# EAGLE library part ECMF2-40A100N6 (library ECMF2-40A100N6)
2 Line Common Mode Choke Surface Mount 100mA DCR 3Ohm (Typ) , -55C ~ 125C Source: Datasheet <https://www.st.com/resource/en/datasheet/ecmf2-40a100n6.pdf>
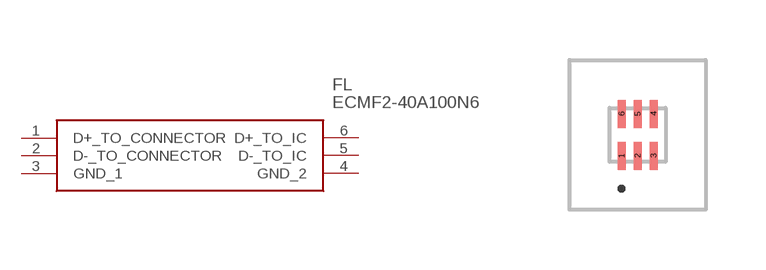
[diagram p0: symbol with the pads of ECMF240A100N6; footprint ECMF240A100N6]

Designator prefix FL

## ECMF2-40A100N6 (Arrow_Part_Number: ECMF2-40A100N6; Arrow_Price-Stock: https://www.arrow.com/en/products/ecmf2-40a100n6/stmicroelectronics.html?utm_currency=USD&region=nac; Description: 2 Line Common Mode Choke Surface Mount 100mA DCR 3Ohm (Typ) , -55C ~ 125C; Height: 0.55mm; Manufacturer_Name: STMicroelectronics; Manufacturer_Part_Number: ECMF2-40A100N6; Mouser_Part_Number: 511-ECMF2-40A100N6; Mouser_Price-Stock: https://www.mouser.co.uk/ProductDetail/STMicroelectronics/ECMF2-40A100N6?qs=Znm5pLBrcAJS%2FJmQqRCfmw%3D%3D)  [ECMF240A100N6]
1  D+_TO_CONNECTOR
2  D-_TO_CONNECTOR
3  GND_1
4  GND_2
5  D-_TO_IC
6  D+_TO_IC

## Footprint ECMF240A100N6 (pad centres in mm)
µQFN6L_2025
smd 0.2 x 0.7: 1 -0.4,-0.525; 2 0,-0.525; 3 0.4,-0.525; 4 0.4,0.525; 5 0,0.525; 6 -0.4,0.525